# Altium footprint library TH-SMT_WT_MP 1.0.PcbLib: 31 footprints (part 2 of 2)
Each footprint in its own frame and in the unit in brackets; x right, y up, seen from the top. Pads: shape width x height; smd on the part's side, far side on the other; paste and mask are expansions set on the pad; w line width, h text height; cw(c..) or ccw(c..) is an arc to the next point about the centre after c.
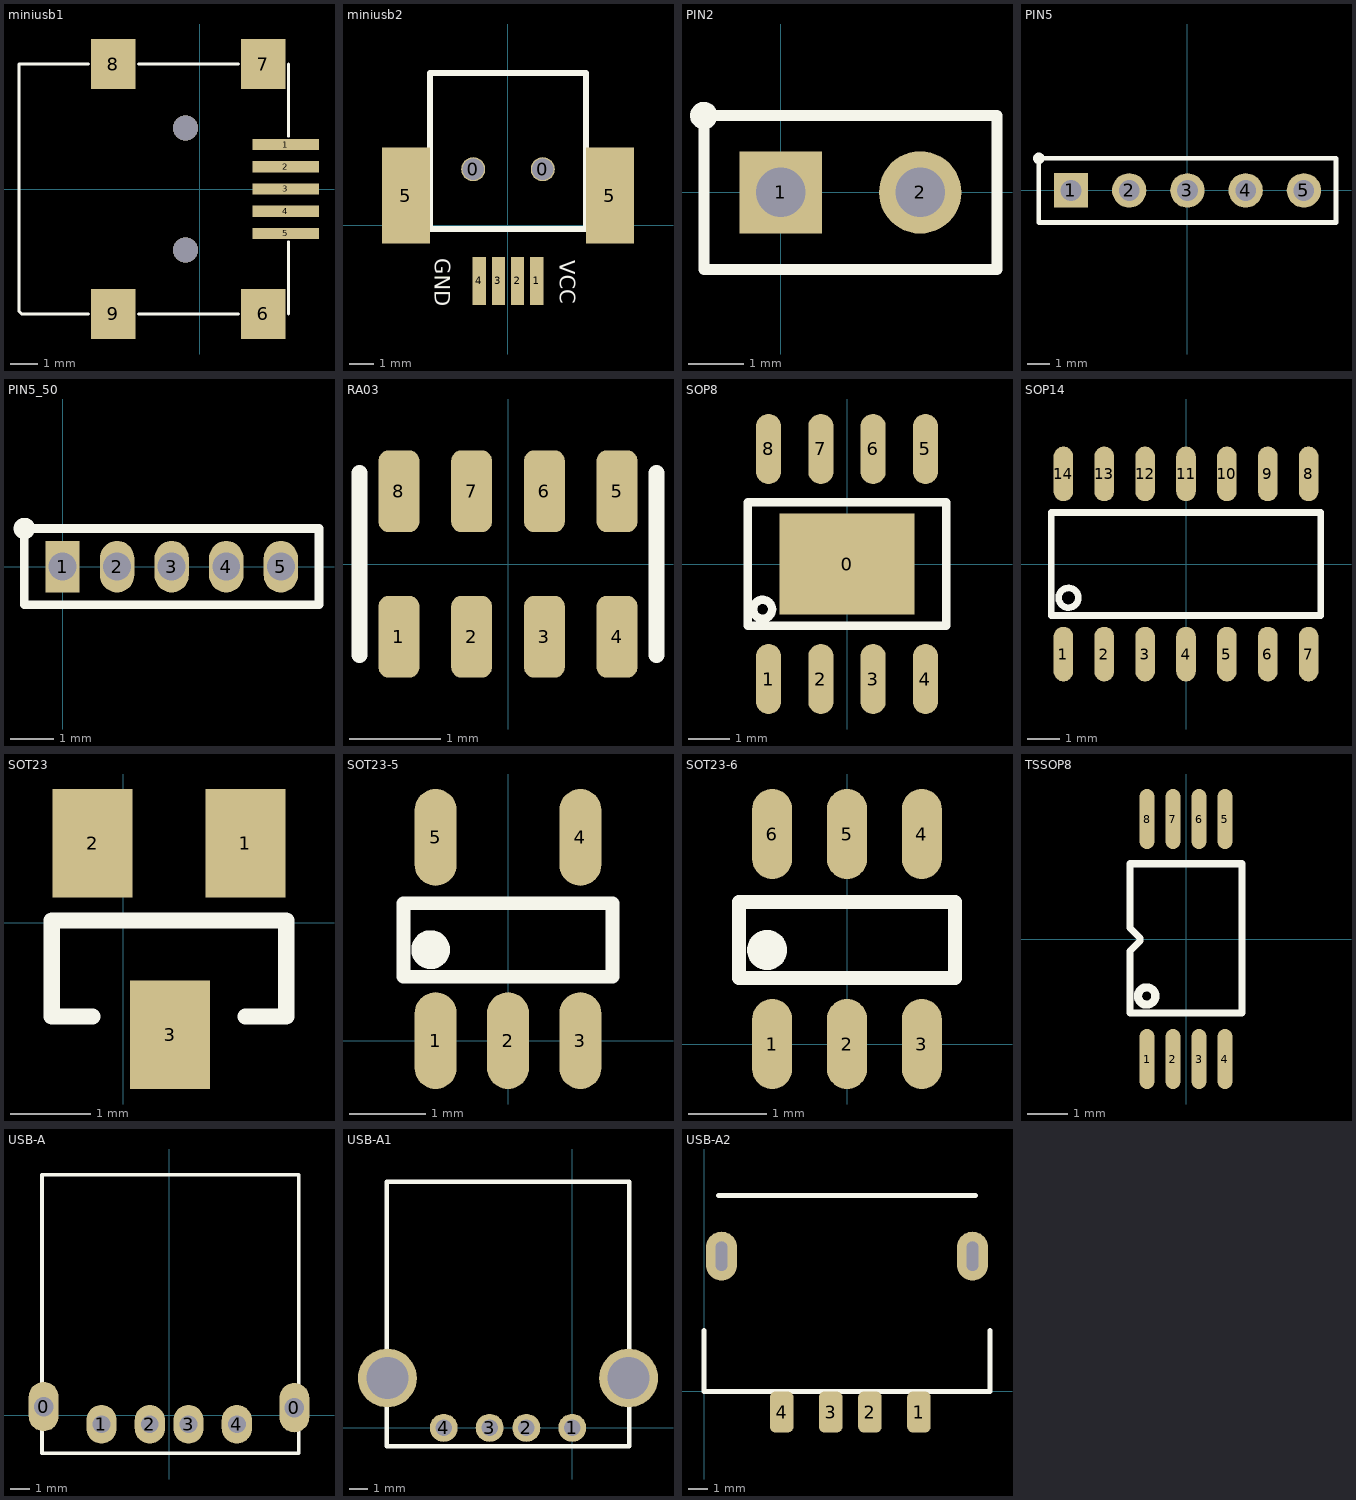
[diagram p1: the footprints below, top view; thin cyan lines are the x and y axes]

## miniusb1 [mm]
pads (9):
  rect 2.4x0.4 smd: 1(3.1,1.6) 2(3.1,0.8) 3(3.1,0) 4(3.1,-0.8) 5(3.1,-1.6)
  rect 1.6x1.8 smd: 6(2.3,-4.5) 7(2.3,4.5) 8(-3.1,4.5) 9(-3.1,-4.5)
via -0.5,2.2 diameter 0.9 hole 0.9
via -0.5,-2.2 diameter 0.9 hole 0.9
Top Overlay:
  lines w0.1: -4,-4.5 -6.4,-4.5 -6.5,-4.4 -6.5,4.5 -4,4.5 ; -2.2,-4.5 1.4,-4.5 ; -2.2,4.5 1.4,4.5 ; 3.2,-4.5 3.2,-1.9 ; 3.2,1.9 3.2,4.5

## miniusb2 [mm]
pads (8):
  round 1 hole 0.9: 0(-1.45,2.325) 0(1.45,2.325)
  rect 0.55x2 smd: 1(1.2,-2.325) 2(0.4,-2.325) 3(-0.4,-2.325) 4(-1.2,-2.325)
  rect 2x4 smd: 5(-4.25,1.225) 5(4.25,1.225)
Top Overlay:
  lines w0.254: -3.25,-0.175 3.25,-0.175 3.25,6.325 -3.25,6.325 -3.25,-0.175
  text "GND" at -3.05,-1.375 h0.64
  text "VCC" at 2.15,-1.475 h0.64

## PIN2 [mm]
pads (2):
  rect 1.5x1.5 hole 0.9: 1(0,0)
  round 1.5 hole 0.9: 2(2.54,0)
Top Overlay:
  circle w0.25: c-1.4,1.4 r0.125
  lines w0.2: -1.4,-1.4 -1.4,1.4 3.94,1.4 3.94,-1.4 -1.4,-1.4

## PIN5 [mm]
height 0.55
pads (5):
  rect 1.5x1.5 hole 0.9: 1(-5.08,0)
  round 1.5 hole 0.9: 2(-2.54,0) 3(0,0) 4(2.54,0) 5(5.08,0)
Top Overlay:
  circle w0.25: c-6.48,1.4 r0.125
  lines w0.2: -6.48,-1.4 -6.48,1.4 6.48,1.4 6.48,-1.4 -6.48,-1.4

## PIN5_50 [mm]
height 0.55
pads (5):
  rect 0.8x1.2 hole 0.65: 1(0,0)
  oval 0.8x1.2 hole 0.65: 2(1.27,0) 3(2.54,0) 4(3.81,0) 5(5.08,0)
Top Overlay:
  circle w0.25: c-0.889,0.889 r0.125
  lines w0.2: -0.889,-0.889 -0.889,0.889 5.969,0.889 5.969,-0.889 -0.889,-0.889

## RA03 [mm]
height 1.19
pads (8):
  rrect50% 0.45x0.9 smd: 1(-1.2,-0.8) 2(-0.4,-0.8) 3(0.4,-0.8) 4(1.2,-0.8) 5(1.2,0.8) 6(0.4,0.8) 7(-0.4,0.8) 8(-1.2,0.8)
Top Overlay:
  lines w0.178: -1.632,-1 -1.632,1 ; 1.632,-1 1.632,1

## SOP8 [mm]
height 0.7
pads (9):
  rect 3.28x2.45 smd: 0(0,0)
  oval 0.61x1.7 smd: 1(-1.905,-2.794) 2(-0.635,-2.794) 3(0.635,-2.794) 4(1.905,-2.794) 5(1.905,2.794) 6(0.635,2.794) 7(-0.635,2.794) 8(-1.905,2.794)
Top Overlay:
  circle w0.203: c-2.05,-1.1 r0.23
  lines w0.203: -2.413,-1.5 2.413,-1.5 2.413,1.5 -2.413,1.5 -2.413,-1.5

## SOP14 [mm]
height 0.7
pads (14):
  oval 0.61x1.7 smd: 1(-3.81,-2.8) 2(-2.54,-2.8) 3(-1.27,-2.8) 4(0,-2.8) 5(1.27,-2.8) 6(2.54,-2.8) 7(3.81,-2.8) 8(3.81,2.8) 9(2.54,2.8) 10(1.27,2.8) 11(0,2.8) 12(-1.27,2.8) 13(-2.54,2.8) 14(-3.81,2.8)
Top Overlay:
  circle w0.203: c-3.65,-1.05 r0.306
  lines w0.203: -4.191,-1.6 -4.191,1.6 4.191,1.6 4.191,-1.6 -4.191,-1.6

## SOT23 [mm] "NPN"
height 0.7
pads (3):
  rect 1x1.35 smd: 1(1.524,0.991) 2(-0.381,0.991) 3(0.584,-1.397)
Top Overlay:
  lines w0.2: -0.381,-1.168 -0.889,-1.168 -0.889,0.025 2.032,0.025 2.032,-1.168 1.524,-1.168

## SOT23-5 [mm]
height 0.7
pads (5):
  oval 0.55x1.27 smd: 1(-0.95,0) 2(0,0) 3(0.95,0) 4(0.95,2.667) 5(-0.95,2.668)
Top Overlay:
  circle w0.254: c-1.016,1.194 r0.127
  lines w0.178: -1.372,0.838 -1.372,1.803 1.372,1.803 1.372,0.838 -1.372,0.838

## SOT23-6 [mil]
height 46.85
pads (6):
  oval 20x45 smd: 1(-37.4,0) 2(0,0) 3(37.4,0) 4(37.4,105) 5(0,105) 6(-37.4,105)
Top Overlay:
  circle w10: c-40,47 r5
  lines w7: -54,33 -54,71 54,71 54,33 -54,33

## TSSOP8 [mm]
height 0.7
pads (8):
  oval 0.37x1.5 smd: 1(-0.975,-3) 2(-0.325,-3) 3(0.325,-3) 4(0.975,-3) 5(0.975,3) 6(0.325,3) 7(-0.325,3) 8(-0.975,3)
Top Overlay:
  circle w0.203: c-0.984,-1.425 r0.217
  lines w0.178: -1.397,-1.851 -1.397,-0.297 -1.148,-0.048 -1.148,0.028 -1.397,0.277 -1.397,1.882 1.397,1.882 1.397,-1.851 -1.397,-1.851

## USB-A [mm]
height 6.86
pads (6):
  oval 1.55x2.55 hole 1: 0(-6.477,0.457) 0(6.477,0.404)
  oval 1.57x2 hole 0.92: 1(-3.491,-0.457) 2(-0.991,-0.457) 3(1.009,-0.457) 4(3.509,-0.457)
Top Overlay:
  lines w0.203: 3.509,-0.457 3.607,-0.457 ; -6.553,-1.956 6.706,-1.956 6.706,12.439 -6.553,12.439 -6.553,-1.956

## USB-A1 [mm]
pads (6):
  round 1.524 hole 0.9: 1(0,0) 2(-2.5,0) 3(-4.5,0) 4(-7,0)
  round 3.2 hole 2.3: ""(-10.07,2.71) ""(3.07,2.71)
Top Overlay:
  lines w0.254: -10.1,-1 -3.5,-1 3.1,-1 3.1,13.4 -10.1,13.4 -10.1,-1

## USB-A2 [mm]
pads (6):
  rrect50% 1.2x2.1 smd: 1(10.96,-1.054) 2(8.46,-1.054) 3(6.46,-1.054) 4(3.96,-1.054)
  oval 1.6x2.5 hole 0.6 slot 1.5 at 90 deg: ""(0.89,6.896) ""(13.69,6.896)
Top Overlay:
  lines w0.254: -0.01,3.1 -0.01,-0.004 14.59,-0.004 14.59,3.1 ; 0.74,9.996 13.84,9.996